# Altium footprint library SOIC_8PIN.PcbLib: 1 footprints
Each footprint in its own frame and in the unit in brackets; x right, y up, seen from the top. Pads: shape width x height; smd on the part's side, far side on the other; paste and mask are expansions set on the pad; w line width, h text height; cw(c..) or ccw(c..) is an arc to the next point about the centre after c.
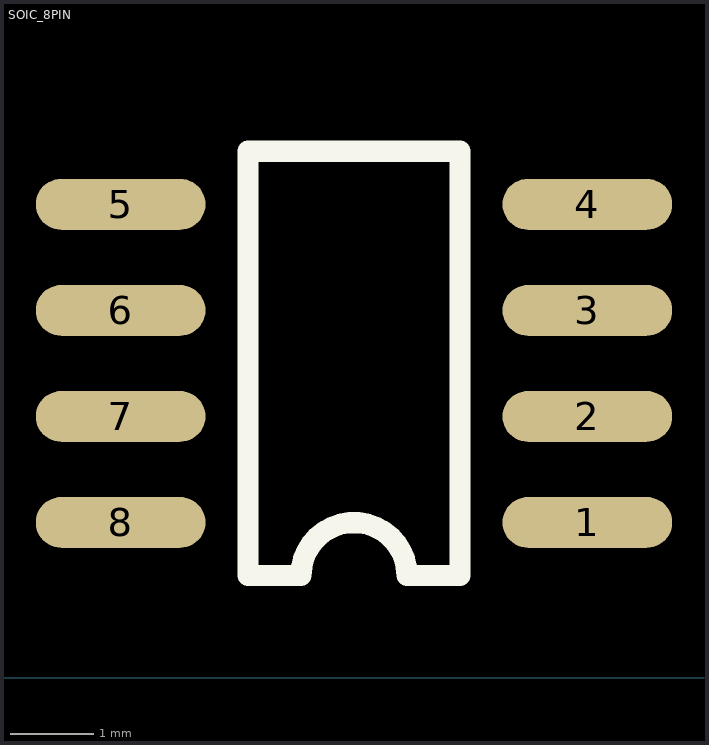
[diagram p0: the footprint, top view; thin cyan lines are the x and y axes]

## SOIC_8PIN [mil]
pads (8):
  oval 80x24 smd: 1(518.86,73.19) 2(518.86,123.19) 3(518.86,173.19) 4(518.86,223.19) 5(298.86,223.19) 6(298.86,173.19) 7(298.86,123.19) 8(298.86,73.19)
Top Overlay:
  lines w10: 358.86,48.19 358.86,248.19 458.86,248.19 458.86,48.19 433.86,48.19 ccw(c408.86,48.19) 383.86,48.19 358.86,48.19